# Altium footprint library E_SIZE.PcbLib: 1 footprints
Each footprint in its own frame and in the unit in brackets; x right, y up, seen from the top. Pads: shape width x height; smd on the part's side, far side on the other; paste and mask are expansions set on the pad; w line width, h text height; cw(c..) or ccw(c..) is an arc to the next point about the centre after c.
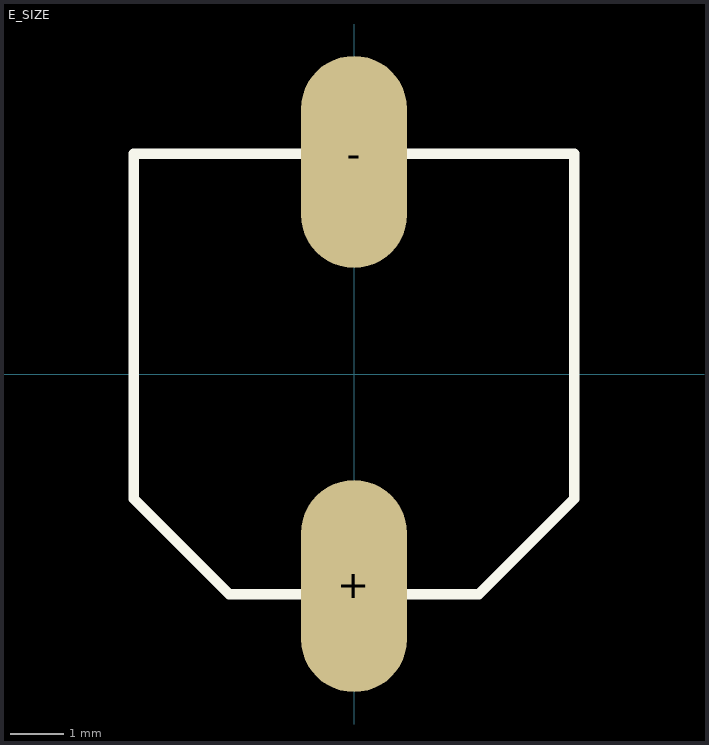
[diagram p0: the footprint, top view; thin cyan lines are the x and y axes]

## E_SIZE [mm]
pads (2):
  oval 2x4 smd: +(0,-4) -(0,4)
Top Overlay:
  lines w0.2: -4.15,-2.35 -4.15,4.15 4.15,4.15 4.15,-2.35 2.35,-4.15 -2.35,-4.15 -4.15,-2.35
3D body: height 6.2, standoff -0.01, extent -4.15,-4.5 4.15,4.5